# EAGLE library part 1-84952-2 (library 1-84952-2)
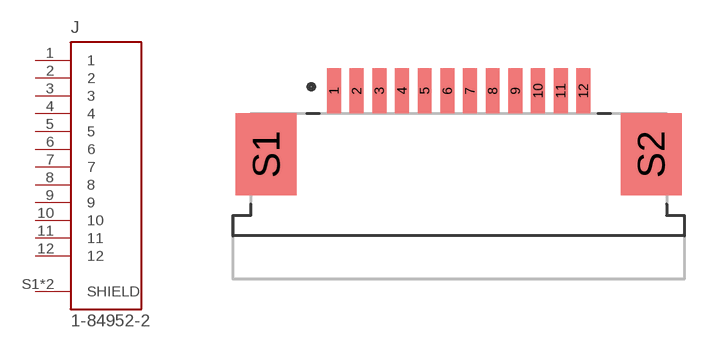
[diagram p0: symbol with the pads of TE_1-84952-2; footprint TE_1-84952-2]

Designator prefix J

## 1-84952-2 (Centerline_Pitch: 1 mm[.039 in]; Check_prices: https://www.snapeda.com/parts/1-84952-2/TE+Connectivity+AMP+Connectors/view-part/?ref=eda; Comment: 1-84952-2; Description: FFC/FPC CONNECTOR, RECEPTACLE 12 POSITION 1ROW; EU_RoHS_Compliance: Compliant; MF: TE Connectivity; MP: 1-84952-2; Number_of_Positions: 12; Package: None; Product_Type: Connector; Purchase-URL: https://www.snapeda.com/api/url_track_click_mouser/?unipart_id=473759&manufacturer=TE Connectivity&part_name=1-84952-2&search_term=None; SnapEDA_Link: https://www.snapeda.com/parts/1-84952-2/TE+Connectivity+AMP+Connectors/view-part/?ref=snap)  [TE_1-84952-2]
1  1  pas
2  2  pas
3  3  pas
4  4  pas
5  5  pas
6  6  pas
7  7  pas
8  8  pas
9  9  pas
10  10  pas
11  11  pas
12  12  pas
S1  SHIELD  pas
S2  SHIELD  pas

## Footprint TE_1-84952-2 (pad centres in mm)
smd 0.61 x 2: 1 -5.5,0; 2 -4.5,0; 3 -3.5,0; 4 -2.5,0; 5 -1.5,0; 6 -0.5,0; 7 0.5,0; 8 1.5,0; 9 2.5,0; 10 3.5,0; 11 4.5,0; 12 5.5,0
smd 2.68 x 3.6: S1 -8.49,-2.8; S2 8.49,-2.8